# EAGLE library part AS-ITM-00224 (library tinycircuits)
CONN HEADER .100" DUAL STR 6POS
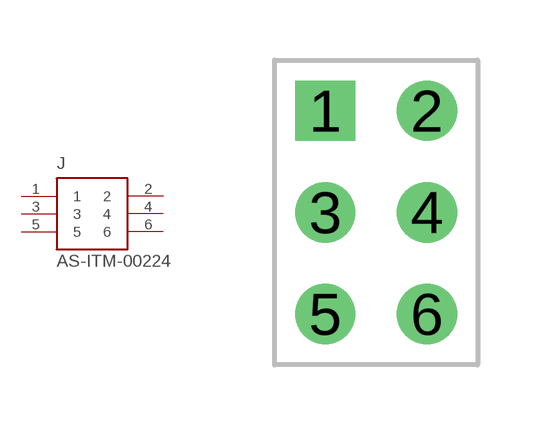
[diagram p95: symbol with the pads of 2X3_.1"_TH_HEADER; footprint 2X3_.1"_TH_HEADER]

Designator prefix J

## AS-ITM-00224 (PARTNO: AS-ITM-00224; VALUE: PRPC003DAAN-RC)  [2X3_.1"_TH_HEADER]
1  1
2  2
3  3
4  4
5  5
6  6

## Footprint 2X3_.1"_TH_HEADER (pad centres in mm)
drill 1 square: 1 -1.27,2.54
drill 1: 2 1.27,2.54; 3 -1.27,0; 4 1.27,0; 5 -1.27,-2.54; 6 1.27,-2.54